# Altium footprint library L29.PcbLib: 11 footprints
Each footprint in its own frame and in the unit in brackets; x right, y up, seen from the top. Pads: shape width x height; smd on the part's side, far side on the other; paste and mask are expansions set on the pad; w line width, h text height; cw(c..) or ccw(c..) is an arc to the next point about the centre after c.
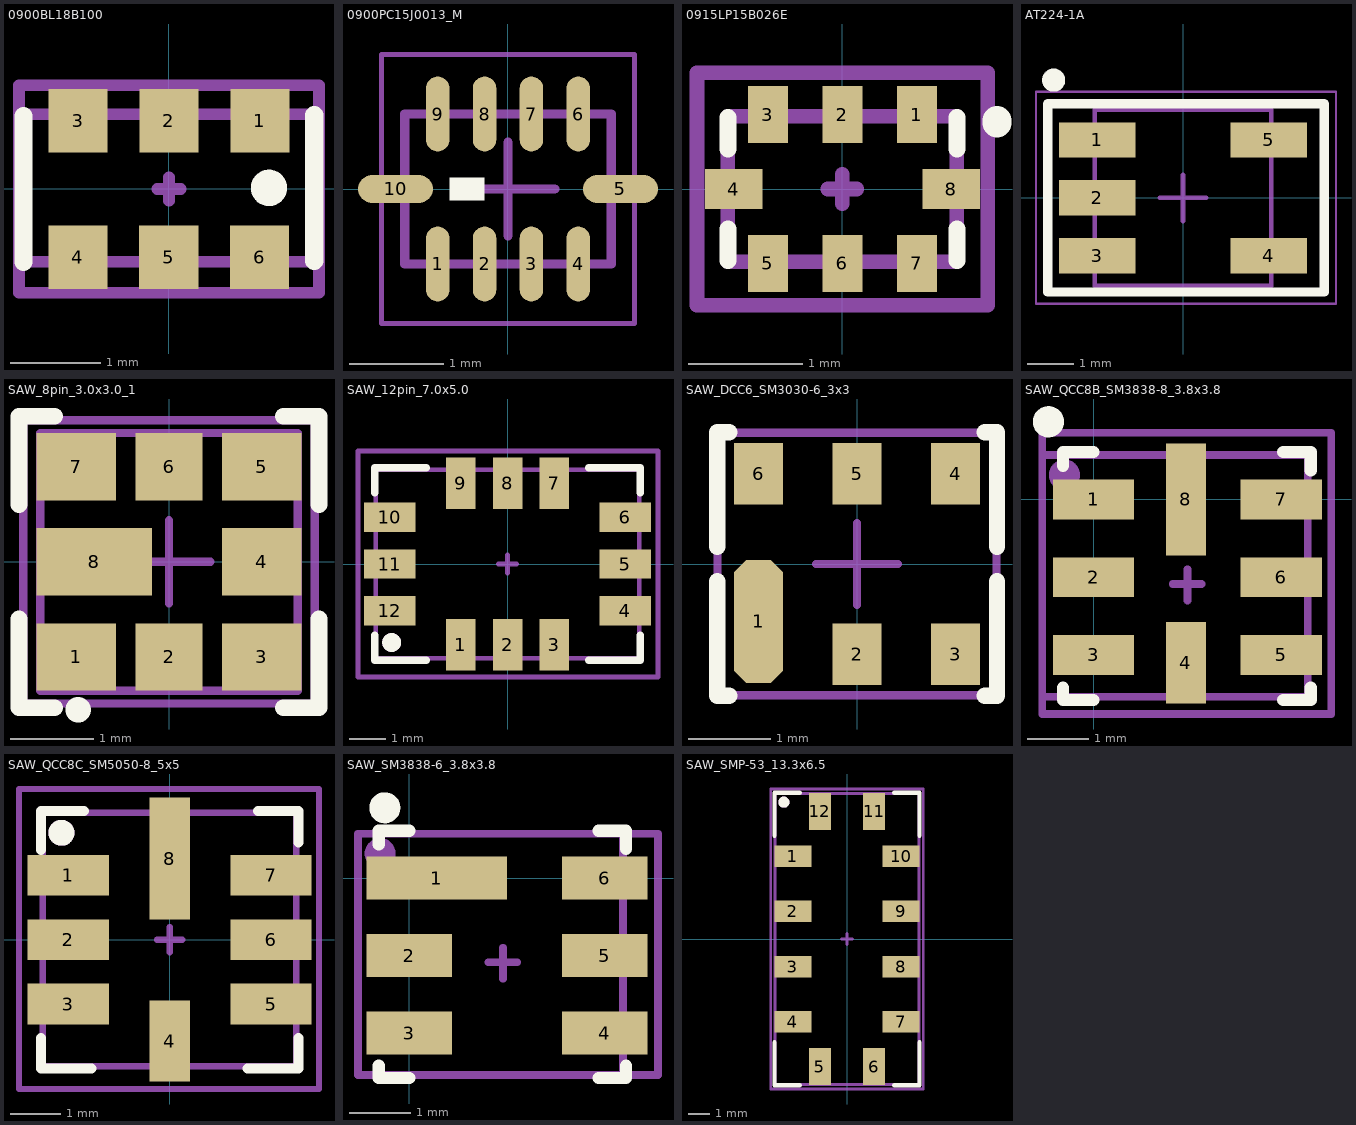
[diagram p0: the footprints below, top view; thin cyan lines are the x and y axes]

## 0900BL18B100 [mm]
pads (6):
  rect 0.65x0.7 smd: 1(1,0.75) 2(0,0.75) 3(-1,0.75) 4(-1.003,-0.75) 5(-0.003,-0.75) 6(0.997,-0.75)
Top Overlay:
  circle w0.2: c1.1,0.012 r0.1
  lines w0.2: -1.6,-0.8 -1.6,0.8 ; 1.599,-0.789 1.599,0.811
Mechanical 13:
  lines w0.127: -1.603,0.822 -1.6,0.822 ; -1.6,0.822 -1.6,-0.8 1.6,-0.8 1.6,0.822 -1.6,0.822
Mechanical 15:
  lines w0.127: -0.127,0 0.127,0 ; 0,-0.127 0,0.127 ; -1.651,-1.143 -1.651,1.143 1.651,1.143 1.651,-1.143 -1.651,-1.143
Mechanical 17:
  text "'.Designator'" at -1.524,-0.127 h0.38
Mechanical 19:
  text "'.Comment'" at -1.524,-0.127 h0.38
3D body: height 0.71, standoff 0, extent 0.925,-0.1 1.275,0.125
3D body: height 0.71, standoff 0, extent -1.325,0.4 -0.675,0.838
3D body: height 0.71, standoff 0, extent -0.325,0.406 0.325,0.844
3D body: height 0.71, standoff 0, extent 0.672,0.4 1.322,0.838
3D body: height 0.71, standoff 0, extent -1.325,-0.816 -0.675,-0.378
3D body: height 0.71, standoff 0, extent -0.325,-0.819 0.325,-0.381
3D body: height 0.71, standoff 0, extent 0.672,-0.816 1.322,-0.378
3D body: height 0.7, standoff 0, extent -1.603,-0.8 1.6,0.822

## 0900PC15J0013_M [mm] "Chip Array, Flat, 10-Leads, Pitch 0,50mm,  Body 2,00x1,25mm,  IPC Medium Density"
height 1
pads (10):
  oval 0.25x0.8 smd: 1(-0.75,-0.8) 2(-0.25,-0.8) 3(0.25,-0.8) 4(0.75,-0.8) 6(0.75,0.8) 7(0.25,0.8) 8(-0.25,0.8) 9(-0.75,0.8)
  oval 0.8x0.3 smd: 5(1.2,0) 10(-1.2,0)
Top Overlay:
  region: -0.25,-0.125 -0.25,0.125 -0.625,0.125 -0.625,-0.125
Mechanical 13:
  lines w0.1: -1.1,-0.8 -1.1,0.8 1.1,0.8 1.1,-0.8 -1.1,-0.8
Mechanical 15:
  lines w0.05: -1.35,-1.435 -1.35,1.435 1.35,1.435 1.35,-1.435 -1.35,-1.435
  lines w0.1: -0.5,0 0.5,0 ; 0,-0.5 0,0.5
Mechanical 17:
  text "'.Designator'" at -1.397,-0.381 h0.51
Mechanical 19:
  text "'.Comment'" at -1.397,-0.381 h0.51
3D body "0900pc15j0013.stp": height 1.01, standoff 0, extent -1.001,-0.626 1.001,0.626

## 0915LP15B026E [mm]
pads (8):
  rect 0.35x0.5 smd: 1(0.65,0.65) 2(0,0.65) 3(-0.65,0.65) 5(-0.65,-0.65) 6(0,-0.65) 7(0.65,-0.65)
  rect 0.5x0.35 smd: 4(-0.95,0) 8(0.95,0)
Top Overlay:
  lines w0.15: -1,-0.625 -1,-0.35 ; -1,0.35 -1,0.625 ; 1,-0.625 1,-0.35 ; 1,0.35 1,0.625
  lines w0.254: 1.35,0.575 1.35,0.6
Mechanical 13:
  lines w0.127: -1,-0.635 -1,0.635 1,0.635 1,-0.635 -1,-0.635
Mechanical 15:
  lines w0.127: -0.127,0 0.127,0 ; 0,-0.127 0,0.127 ; -1.27,-1.016 -1.27,1.016 1.27,1.016 1.27,-1.016 -1.27,-1.016
Mechanical 17:
  text "'.Designator'" at -1.27,-0.381 h0.51
Mechanical 19:
  text "'.Comment'" at -1.27,-0.381 h0.51
3D body "User Library-1600BL15B100E.step": height 0.91, standoff 0.05, extent -1,-0.635 1,0.635

## AT224-1A [mm] "surface mount RF transformer"
height 4
pads (5):
  rect 1.65x0.76 smd: 1(-1.85,1.25) 2(-1.85,0) 3(-1.85,-1.25) 4(1.85,-1.25) 5(1.85,1.25)
Top Overlay:
  circle w0.25: c-2.794,2.54 r0.125
  lines w0.2: -2.921,-2.032 -2.921,2.032 3.048,2.032 3.048,-2.032 -2.921,-2.032
Mechanical 13:
  lines w0.1: -1.905,-1.905 1.905,-1.905 1.905,1.905 -1.905,1.905 -1.905,-1.905
Mechanical 15:
  lines w0.05: -3.175,-2.286 3.302,-2.286 3.302,2.286 -3.175,2.286 -3.175,-2.286
  lines w0.1: -0.5,0 0.5,0 ; 0,-0.5 0,0.5
Mechanical 17:
  text "'.Designator'" at -0.254,1.778 h0.64
Mechanical 19:
  text "'.Comment'" at -0.254,1.778 h0.64
3D body "trafo1.step": height 4.1, standoff 0, extent -2.413,-1.905 2.413,1.905

## SAW_8pin_3.0x3.0_1 [mm]
pads (8):
  rect 0.96x0.81 smd: 1(-1.115,-1.143) 3(1.115,-1.143) 4(1.115,0) 5(1.115,1.143) 7(-1.115,1.143)
  rect 0.81x0.81 smd: 2(0,-1.143) 6(0,1.143)
  rect 1.39x0.81 smd: 8(-0.9,0)
Top Overlay:
  circle w0.254: c-1.092,-1.778 r0.025
  lines w0.2: -1.803,-0.686 -1.803,-1.753 -1.372,-1.753 ; -1.803,0.686 -1.803,1.753 -1.372,1.753 ; 1.372,-1.753 1.803,-1.753 1.803,-0.686 ; 1.372,1.753 1.803,1.753 1.803,0.686
Mechanical 13:
  lines w0.1: -1.549,-1.549 -1.549,1.549 1.549,1.549 1.549,-1.549 -1.549,-1.549
Mechanical 15:
  lines w0.1: -0.5,0 0.5,0 ; 0,-0.5 0,0.5 ; -1.753,-1.702 -1.753,1.702 1.753,1.702 1.753,-1.702 -1.753,-1.702
Mechanical 17:
  text "'.Designator'" at -1.524,-0.127 h0.51
Mechanical 19:
  text "'.Comment'" at -1.524,-0.127 h0.51
3D body "User Library-TA0676A SAW Filter 1592_5MHz SMD.step": height 1.4, standoff 0, extent -1.5,-1.5 1.5,1.5

## SAW_12pin_7.0x5.0 [mm]
height 1.8
pads (12):
  rect 0.8x1.4 smd: 1(-1.27,-2.2) 2(0,-2.2) 3(1.27,-2.2) 7(1.27,2.2) 8(0,2.2) 9(-1.27,2.2)
  rect 1.4x0.8 smd: 4(3.2,-1.27) 5(3.2,0) 6(3.2,1.27) 10(-3.2,1.27) 11(-3.2,0) 12(-3.2,-1.27)
Top Overlay:
  circle w0.254: c-3.15,-2.134 r0.129
  lines w0.2: -3.607,-1.93 -3.607,-2.616 -2.21,-2.616 ; -3.607,1.93 -3.607,2.616 -2.21,2.616 ; 2.21,-2.616 3.607,-2.616 3.607,-1.93 ; 2.21,2.616 3.607,2.616 3.607,1.93
Mechanical 13:
  circle w0.254: c-3.15,-2.134 r0.129
  lines w0.127: -3.581,-2.565 3.581,-2.565 3.581,2.565 -3.581,2.565 -3.581,-2.565
Mechanical 15:
  lines w0.127: -0.25,0 0.25,0 ; 0,-0.25 0,0.25 ; -4.064,-3.073 -4.064,3.073 4.089,3.073 4.089,-3.073 -4.064,-3.073
Mechanical 17:
  text "'.Designator'" at -2.235,-0.076 h0.41
Mechanical 19:
  text "'.Comment'" at -2.235,-0.076 h0.41
3D body "User Library-TA0395A SAW Filter 7_0mm x 5_0mm SMD.stp": height 2, standoff -0.01, extent -3.5,-2.5 3.5,2.5

## SAW_DCC6_SM3030-6_3x3 [mm]
pads (6):
  oct 0.6x1.5 smd: 1(-1.2,-0.7)
  rect 0.6x0.75 smd: 2(0,-1.1) 3(1.2,-1.1) 4(1.2,1.1) 5(0,1.1) 6(-1.2,1.1)
Top Overlay:
  lines w0.2: -1.705,-0.208 -1.705,-1.605 -1.555,-1.605 ; -1.705,0.208 -1.705,1.605 -1.555,1.605 ; 1.555,-1.605 1.705,-1.605 1.705,-0.208 ; 1.555,1.605 1.705,1.605 1.705,0.208
Mechanical 13:
  lines w0.1: -1.7,-1.6 -1.7,1.6 1.7,1.6 1.7,-1.6 -1.7,-1.6
Mechanical 15:
  lines w0.1: -0.5,0 0.5,0 ; 0,-0.5 0,0.5 ; -1.7,-1.6 -1.7,1.6 1.7,1.6 1.7,-1.6 -1.7,-1.6
Mechanical 17:
  text "'.Designator'" at -1.524,-0.127 h0.51
Mechanical 19:
  text "'.Comment'" at -1.524,-0.127 h0.51
3D body "SW3dPS-DCC6C.STEP": height 1.14, standoff -0.09, extent -1.5,-1.5 1.5,1.5

## SAW_QCC8B_SM3838-8_3.8x3.8 [mm]
height 1.4
pads (8):
  rect 1.33x0.65 smd: 1(0,0) 2(0,-1.27) 3(0,-2.54) 5(3.07,-2.54) 6(3.07,-1.27) 7(3.07,0)
  rect 0.65x1.33 smd: 4(1.51,-2.667)
  rect 0.65x1.83 smd: 8(1.51,0)
Top Overlay:
  circle w0.254: c-0.737,1.27 r0.127
  lines w0.2: -0.5,-3.075 -0.5,-3.275 0,-3.275 ; -0.5,0.55 -0.5,0.775 0,0.775 ; 3.1,-3.275 3.55,-3.275 3.55,-3.075 ; 3.1,0.775 3.55,0.775 3.55,0.475
Mechanical 13:
  circle w0.254: c-0.475,0.4 r0.127
  lines w0.127: -0.838,-3.225 3.5,-3.225 3.5,0.725 -0.838,0.725 -0.838,-3.225
Mechanical 15:
  lines w0.127: 1.296,-1.379 1.765,-1.379 ; 1.535,-1.649 1.535,-1.141 ; -0.838,-3.505 3.886,-3.505 3.886,1.092 -0.838,1.092 -0.838,-3.505
Mechanical 17:
  text "'.Designator'" at -0.903,-0.889 h0.41
Mechanical 19:
  text "'.Comment'" at -0.225,-2.15 h0.41
3D body: height 1.43, standoff 1.4, extent 2.731,0.026 3.237,0.533
3D body "SW3dPS-QCC8B.STEP": height 1.52, standoff -0.09, extent -0.375,-3.15 3.425,0.65

## SAW_QCC8C_SM5050-8_5x5 [mm]
height 1.35
pads (8):
  rect 1.6x0.8 smd: 1(-2,1.27) 2(-2,0) 3(-2,-1.27) 5(2,-1.27) 6(2,0) 7(2,1.27)
  rect 0.8x1.6 smd: 4(0,-2)
  rect 0.8x2.4 smd: 8(0,1.6)
Top Overlay:
  circle w0.254: c-2.134,2.108 r0.129
  lines w0.2: -2.54,-1.94 -2.54,-2.54 -1.54,-2.54 ; -2.54,1.765 -2.54,2.54 -1.689,2.54 ; 1.537,-2.54 2.537,-2.54 ; 1.74,2.54 2.54,2.54 ; 2.54,-2.54 2.54,-1.94 ; 2.54,1.915 2.54,2.515
Mechanical 13:
  circle w0.254: c-2.134,2.108 r0.129
  lines w0.127: -2.5,-2.5 2.5,-2.5 2.5,2.5 -2.5,2.5 -2.5,-2.5
Mechanical 15:
  lines w0.127: -0.25,0 0.25,0 ; 0,-0.25 0,0.25 ; -2.972,-2.946 -2.972,2.972 2.946,2.972 2.946,-2.946 -2.972,-2.946
Mechanical 17:
  text "'.Designator'" at -2.426,-0.622 h0.41
Mechanical 19:
  text "'.Comment'" at -2.426,-0.622 h0.41
3D body "SW3dPS-QCC8C.STEP": height 1.37, standoff -0.09, extent -2.525,-2.464 2.475,2.536

## SAW_SM3838-6_3.8x3.8 [mm]
height 1.4
pads (6):
  rect 2.3x0.7 smd: 1(0.45,0)
  rect 1.4x0.7 smd: 2(0,-1.27) 3(0,-2.54) 4(3.2,-2.54) 5(3.2,-1.27) 6(3.2,0)
Top Overlay:
  circle w0.254: c-0.4,1.15 r0.127
  lines w0.2: -0.5,-3.075 -0.5,-3.275 0,-3.275 ; -0.5,0.55 -0.5,0.775 0,0.775 ; 3.1,-3.275 3.55,-3.275 3.55,-3.075 ; 3.1,0.775 3.55,0.775 3.55,0.475
Mechanical 13:
  circle w0.254: c-0.475,0.4 r0.127
  lines w0.127: -0.838,-3.225 -0.838,0.725 3.5,0.725 3.5,-3.225 -0.838,-3.225
Mechanical 15:
  lines w0.127: 1.296,-1.379 1.765,-1.379 ; 1.535,-1.649 1.535,-1.141 ; -0.838,-3.225 -0.838,0.725 4.075,0.725 4.075,-3.225 -0.838,-3.225
Mechanical 17:
  text "'.Designator'" at -0.903,-0.889 h0.41
Mechanical 19:
  text "'.Comment'" at -0.225,-2.15 h0.41
3D body: height 1.43, standoff 1.4, extent 2.731,0.026 3.237,0.533
3D body "SW3dPS-QCC8B.STEP": height 1.52, standoff -0.09, extent -0.375,-3.15 3.425,0.65

## SAW_SMP-53_13.3x6.5 [mm]
height 1.8
pads (12):
  rect 1.7x1 smd: 1(-2.5,3.825) 2(-2.5,1.275) 3(-2.5,-1.275) 4(-2.5,-3.825) 7(2.5,-3.825) 8(2.5,-1.275) 9(2.5,1.275) 10(2.5,3.825)
  rect 1x1.7 smd: 5(-1.25,-5.9) 6(1.25,-5.9) 11(1.25,5.9) 12(-1.25,5.9)
Top Overlay:
  circle w0.254: c-2.921,6.325 r0.129
  lines w0.2: -3.353,-4.775 -3.353,-6.756 -2.184,-6.756 ; -3.353,4.775 -3.353,6.756 -2.184,6.756 ; 2.184,-6.756 3.353,-6.756 3.353,-4.775 ; 2.184,6.756 3.353,6.756 3.353,4.775
Mechanical 13:
  circle w0.254: c-2.921,6.325 r0.129
  lines w0.127: -3.327,-6.731 -3.327,6.731 3.327,6.731 3.327,-6.731 -3.327,-6.731
Mechanical 15:
  lines w0.127: -0.25,0 0.25,0 ; 0,-0.25 0,0.25 ; -3.531,-6.934 3.531,-6.934 3.531,6.934 -3.531,6.934 -3.531,-6.934
Mechanical 17:
  text "'.Designator'" at -0.076,2.235 h0.41
Mechanical 19:
  text "'.Comment'" at -0.076,2.235 h0.41
3D body "User Library-854909 pass.step": height 1.75, standoff 0, extent -3.25,-6.65 3.25,6.65